# Altium schematic symbol library LS7082N1-S.SchLib: 1 symbol
Pins are listed as number, name and electrical type; pins without a type are passive.

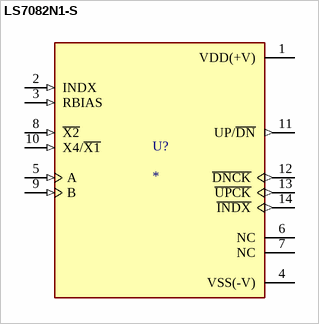
[diagram p0: symbol LS7082N1-S]

## LS7082N1-S
designator U?
MP: LS7082N1-S; MF: {'manufacturer': u'LSI/CSI'}; Availability: Unavailable; Value: *; Price: None; Package: None
footprint SOIC127P600X175-14N
pins: 1 VDD(+V) (power), 2 INDX (in), 3 RBIAS (in), 4 VSS(-V) (power), 5 A (in), 6 NC, 7 NC, 8 ~{X2} (in), 9 B (in), 10 X4/~{X1} (in), 11 UP/~{DN} (out), 12 ~{DNCK} (out), 13 ~{UPCK} (out), 14 ~{INDX} (out)